# Altium schematic symbol library 1kOhm-Res.SchLib: 2 symbols
Pins are listed as number, name and electrical type; pins without a type are passive.

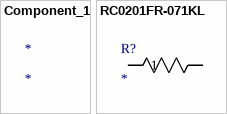
[diagram p0: symbols Component_1 to RC0201FR-071KL]

## Component_1
designator *

## RC0201FR-071KL
designator R?
Imported; Manufacturer_Part_Number: RC0201FR-071KL; Vendor: Yageo; Built_By: EMA_UL_Team; C: Copyright (C) 2015 Accelerated Designs. All rights reserved; RefDes: RefDes; Type: DEV; Value: Value
footprint YAG_R0201
pins: 1, 2